# Altium schematic symbol library Miscellaneous Schematic Lib.SchLib: 2 symbols
Pins are listed as number, name and electrical type; pins without a type are passive.

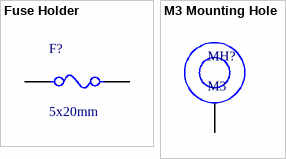
[diagram p0: symbols Fuse Holder to M3 Mounting Hole]

## Fuse Holder
designator F?, comment 5x20mm
FUSE BLOCK 10A PCB; MPN: 0031.8211; Manufacturer: Schurter; ComponentLink2URL: https://www.littelfuse.com/~/media/electronics/datasheets/fuse_blocks/littelfuse_fuse_block_646_datasheet.pdf.pdf; ComponentLink2Description: Datasheet; Current Rating: 10A; Fuse Size: 5x20mm; DNI: DNI; DNP: DNP
footprint Fuse Holder
pins: 1, 2

## M3 Mounting Hole
designator MH?, comment M3  (no BOM)
M3 Plated Through Hole (PTH); Value: M3
footprint M3_Mounting_Hole (Plated Through Hole, M3)
pins: 1